# EAGLE library part 1554ТМ2 (library std-logic-1554series)
АЕЯР.431200.182-13 ТУ 1554ТМ2 - Два D-триггера с установкой и сбросом. Изготовитель: ОАО "ИНТЕГРАЛ", г. Минск, р. Беларусь. Технические условия (ТБМ): АЕЯР.431200.182-13 ТУ Технические условия (не ТБМ): АЕЯР.431200.093-02 ТУ
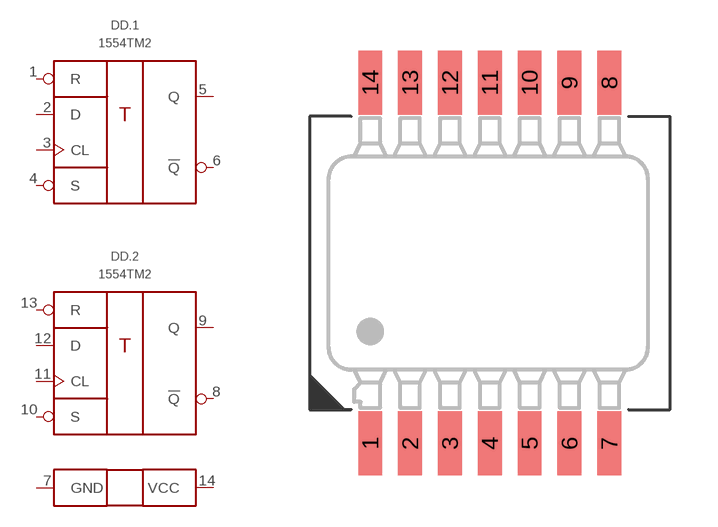
[diagram p49: symbol with the pads of 401.14-5; footprint 401.14-5]

Designator prefix DD; gates .1=1554ТМ2 .2=1554ТМ2 G$3=1554_PWR1

## 1554ТМ2ТБМ  [401.14-5]
1  .1:R  in
2  .1:D  in
3  .1:CL  in
4  .1:S  in
5  .1:Q  out
6  .1:!Q  out
7  G$3:GND  pwr
8  .2:!Q  out
9  .2:Q  out
10  .2:S  in
11  .2:CL  in
12  .2:D  in
13  .2:R  in
14  G$3:VCC  pwr

## Footprint 401.14-5 (pad centres in mm)
smd 0.75 x 2: 1 -3.7,-5.65; 2 -2.45,-5.65; 3 -1.2,-5.65; 4 0.05,-5.65; 5 1.3,-5.65; 6 2.55,-5.65; 7 3.8,-5.65; 8 3.8,5.65; 9 2.55,5.65; 10 1.3,5.65; 11 0.05,5.65; 12 -1.2,5.65; 13 -2.45,5.65; 14 -3.7,5.65